# Altium footprint library 55935-0610.PcbLib: 1 footprints
Each footprint in its own frame and in the unit in brackets; x right, y up, seen from the top. Pads: shape width x height; smd on the part's side, far side on the other; paste and mask are expansions set on the pad; w line width, h text height; cw(c..) or ccw(c..) is an arc to the next point about the centre after c.
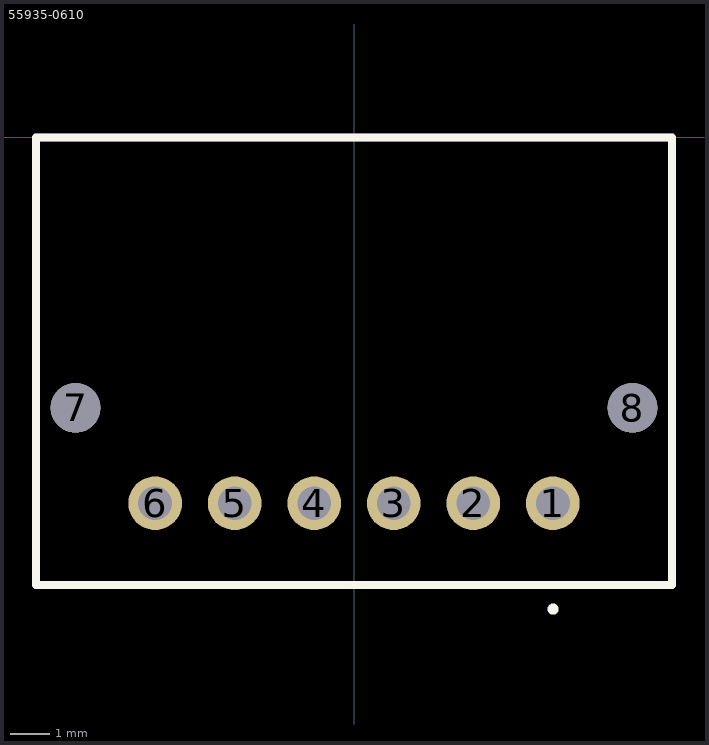
[diagram p0: the footprint, top view; thin cyan lines are the x and y axes]

## 55935-0610 [mm]
pads (8):
  round 1.35 hole 0.85: 1(5,-9.2) 2(3,-9.2) 3(1,-9.2) 4(-1,-9.2) 5(-3,-9.2) 6(-5,-9.2)
  round 1.25 hole 1.25 unplated: 7(-7,-6.8) 8(7,-6.8)
L26-Silk Screen Top (Multiple PADS layers...):
  circle w0.2: c5.005,-11.862 r0.039
  lines w0.2: -8,-11.25 -8,0 8,0 8,-11.25 -8,-11.25
L15 (Multiple PADS layers...):
  lines w0.2: -8,-11.25 8,-11.25 8,0 -8,0 -8,-11.25